# Altium integrated library HX PZ2.54-1x5P ZZ.IntLib: 1 symbol
Pins are listed as number, name and electrical type; pins without a type are passive.

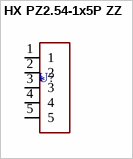
[diagram p0: symbol HX PZ2.54-1x5P ZZ]

## HX PZ2.54-1x5P ZZ
designator U?  (value not drawn)
Pin Headers. -40C~+105C 1 1kV 1x5P 2.54mm 2.5mm 3A 3mm 5P 6mm Black Brass Gold Pin Header Through Hole Plugin,P=2.54mm Pin Headers ROHS; Manufacturer: hanxia; Component Type: Integrated Circuits; Design Item ID: HX PZ2.54-1x5P ZZ; Value: *; JLCPCB Part #: C32713271; Manufacturer Part Number: HX PZ2.54-1x5P ZZ
footprint HX PZ2.54-1x5P ZZ (HDR-TH_5P-P2.54-V-M)
pins: 1, 2, 3, 4, 5